# Altium footprint library SPEC_A7_Management.PcbLib: 13 footprints
Each footprint in its own frame and in the unit in brackets; x right, y up, seen from the top. Pads: shape width x height; smd on the part's side, far side on the other; paste and mask are expansions set on the pad; w line width, h text height; cw(c..) or ccw(c..) is an arc to the next point about the centre after c.
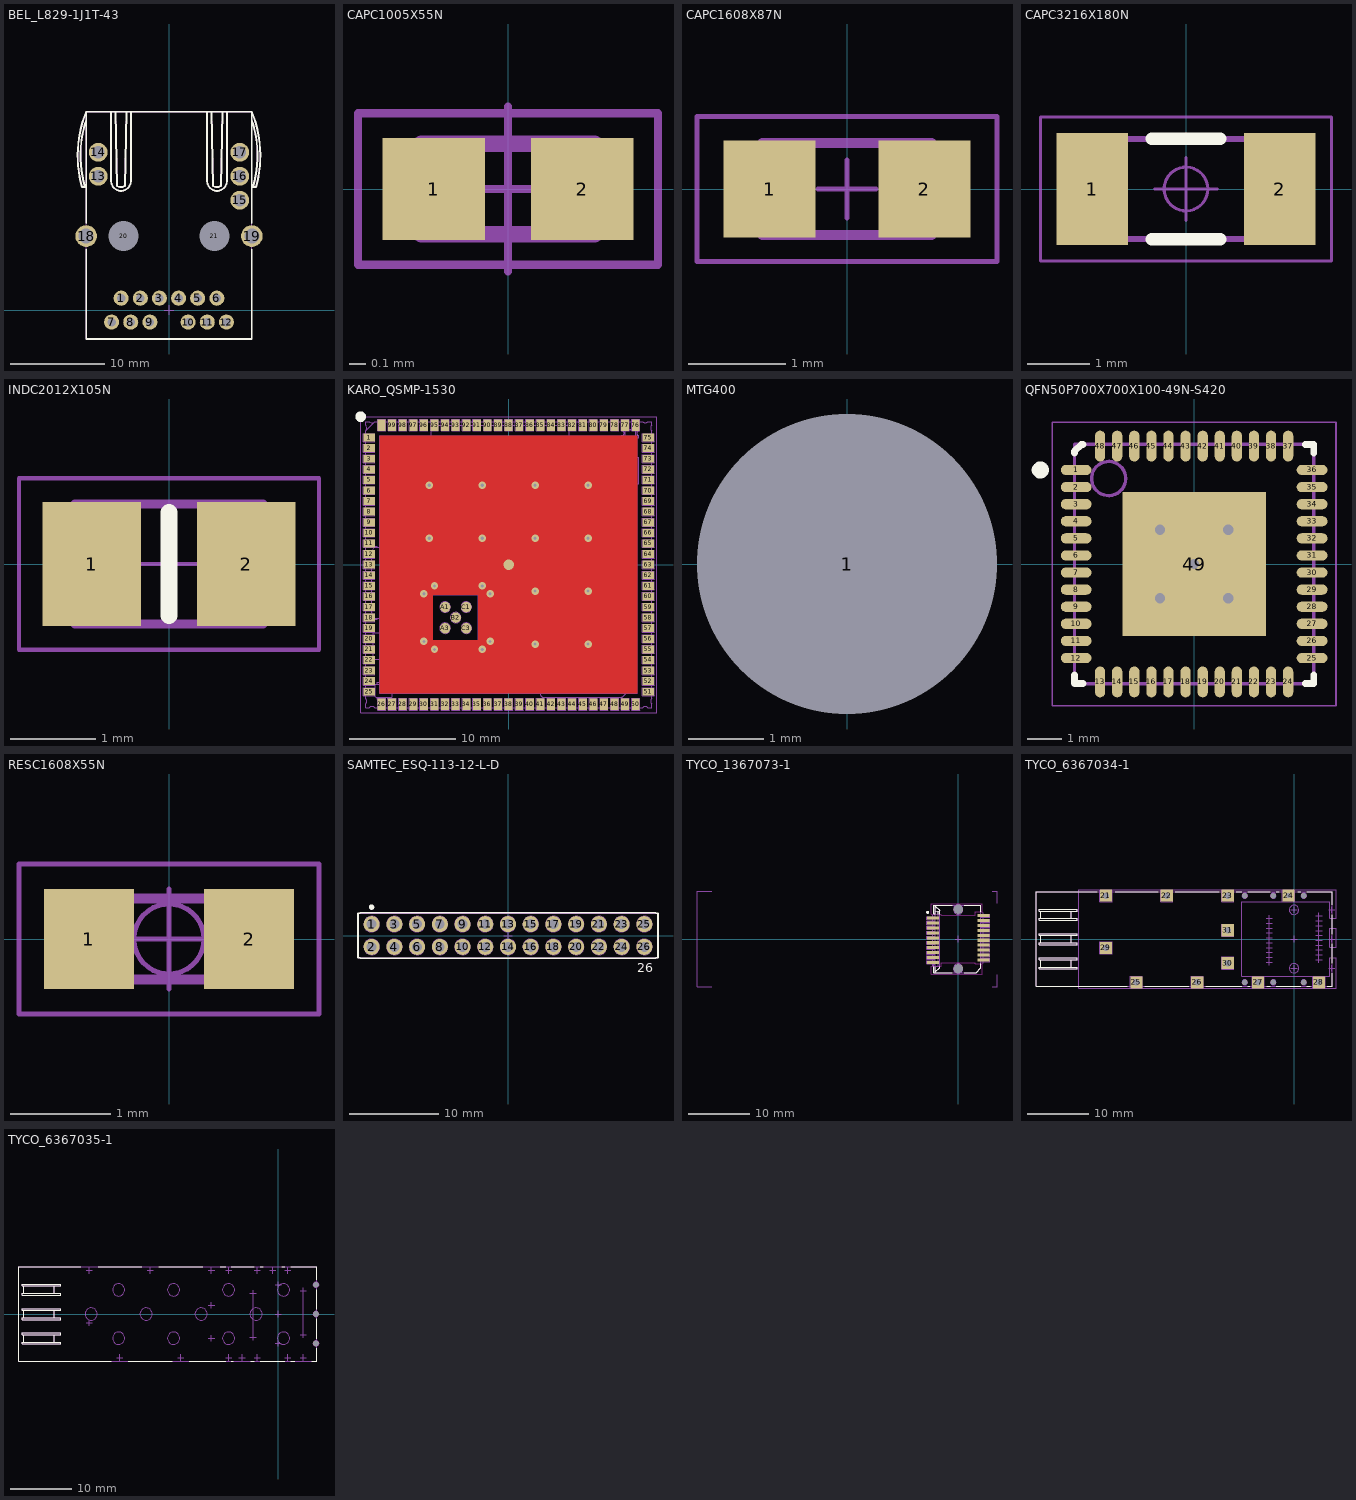
[diagram p0: the footprints below, top view; thin cyan lines are the x and y axes]

## BEL_L829-1J1T-43 [mm] "1 Port, Yellow/Green-Orange LEDs, Gigabit Ethernet, MagJack Connector Module"
height 11.3
pads (21):
  round 1.6 hole 0.9: 1(-5.08,1.27) 2(-3.048,1.27) 3(-1.016,1.27) 4(1.016,1.27) 5(3.048,1.27) 6(5.08,1.27) 7(-6.096,-1.27) 8(-4.064,-1.27) 9(-2.032,-1.27) 10(2.032,-1.27) 11(4.064,-1.27) 12(6.096,-1.27)
  round 2 hole 1.3: 13(-7.52,14.22) 14(-7.52,16.76) 15(7.52,11.68) 16(7.52,14.22) 17(7.52,16.76)
  round 2.3 hole 1.6: 18(-8.79,7.87) 19(8.79,7.87)
  round 1 hole 3.2 unplated mask+1.1: 20(-4.825,7.87) 21(4.825,7.87)
Top Overlay:
  lines w0.2: -8.79,6.47 -8.79,-3.06 8.79,-3.06 8.79,6.47 ; -8.79,9.27 -8.79,21.07 ; -8.79,20.2 ccw(c2.676,16.42) -8.923,13.07 -9.235,13.07 cw(c2.676,16.42) -8.79,21.07 ; -6.147,13.72 -6.147,21.07 ; -6.147,13.721 ccw(c-5.097,13.72) -4.047,13.719 -4.047,21.07 ; -5.7,21.07 -5.503,13.177 ; -5.466,13.157 ccw(c-5.097,13.89) -4.692,13.177 -4.494,21.07 ; 4.047,13.72 4.047,21.07 ; 4.047,13.721 ccw(c5.097,13.72) 6.147,13.719 6.147,21.07 ; 4.494,21.07 4.692,13.177 ; 4.728,13.157 ccw(c5.097,13.89) 5.503,13.177 5.7,21.07 ; 8.79,9.27 8.79,21.07 ; 8.79,20.2 cw(c-2.676,16.42) 8.923,13.07 9.235,13.07 ccw(c-2.676,16.42) 8.79,21.07 ; -8.79,21.07 8.79,21.07
Mechanical 8:
  lines w0.1: -9.29,7.87 -8.79,7.87 ; -8.79,7.37 -8.79,7.87 ; -8.79,8.37 -8.79,7.87 ; -8.29,7.87 -8.79,7.87 ; -8.02,14.22 -7.52,14.22 ; -8.02,16.76 -7.52,16.76 ; -7.52,13.72 -7.52,14.22 ; -7.52,14.72 -7.52,14.22 ; -7.52,16.26 -7.52,16.76 ; -7.52,17.26 -7.52,16.76 ; -7.02,14.22 -7.52,14.22 ; -7.02,16.76 -7.52,16.76 ; -6.596,-1.27 -6.096,-1.27 ; -6.096,-1.77 -6.096,-1.27 ; -6.096,-0.77 -6.096,-1.27 ; -5.596,-1.27 -6.096,-1.27 ; -5.58,1.27 -5.08,1.27 ; -5.325,7.87 -4.825,7.87 ; -5.08,0.77 -5.08,1.27 ; -5.08,1.77 -5.08,1.27 ; -4.825,7.37 -4.825,7.87 ; -4.825,8.37 -4.825,7.87 ; -4.58,1.27 -5.08,1.27 ; -4.564,-1.27 -4.064,-1.27 ; -4.325,7.87 -4.825,7.87 ; -4.064,-1.77 -4.064,-1.27 ; -4.064,-0.77 -4.064,-1.27 ; -3.564,-1.27 -4.064,-1.27 ; -3.548,1.27 -3.048,1.27 ; -3.048,0.77 -3.048,1.27 ; -3.048,1.77 -3.048,1.27 ; -2.548,1.27 -3.048,1.27 ; -2.532,-1.27 -2.032,-1.27 ; -2.032,-1.77 -2.032,-1.27 ; -2.032,-0.77 -2.032,-1.27 ; -1.532,-1.27 -2.032,-1.27 ; -1.516,1.27 -1.016,1.27 ; -1.016,0.77 -1.016,1.27 ; -1.016,1.77 -1.016,1.27 ; -0.516,1.27 -1.016,1.27 ; -0.5,0 0,0 ; 0,-0.5 0,0 ; 0,0.5 0,0 ; 0.5,0 0,0 ; 0.516,1.27 1.016,1.27 ; 1.016,0.77 1.016,1.27 ; 1.016,1.77 1.016,1.27 ; 1.516,1.27 1.016,1.27 ; 1.532,-1.27 2.032,-1.27 ; 2.032,-1.77 2.032,-1.27 ; 2.032,-0.77 2.032,-1.27 ; 2.532,-1.27 2.032,-1.27 ; 2.548,1.27 3.048,1.27 ; 3.048,0.77 3.048,1.27 ; 3.048,1.77 3.048,1.27 ; 3.548,1.27 3.048,1.27 ; 3.564,-1.27 4.064,-1.27 ; 4.064,-1.77 4.064,-1.27 ; 4.064,-0.77 4.064,-1.27 ; 4.325,7.87 4.825,7.87 ; 4.564,-1.27 4.064,-1.27 ; 4.58,1.27 5.08,1.27 ; 4.825,7.37 4.825,7.87 ; 4.825,8.37 4.825,7.87 ; 5.08,0.77 5.08,1.27 ; 5.08,1.77 5.08,1.27 ; 5.325,7.87 4.825,7.87 ; 5.58,1.27 5.08,1.27 ; 5.596,-1.27 6.096,-1.27 ; 6.096,-1.77 6.096,-1.27 ; 6.096,-0.77 6.096,-1.27 ; 6.596,-1.27 6.096,-1.27 ; 7.02,11.68 7.52,11.68 ; 7.02,14.22 7.52,14.22 ; 7.02,16.76 7.52,16.76 ; 7.52,11.18 7.52,11.68 ; 7.52,12.18 7.52,11.68 ; 7.52,13.72 7.52,14.22 ; 7.52,14.72 7.52,14.22 ; 7.52,16.26 7.52,16.76 ; 7.52,17.26 7.52,16.76 ; 8.02,11.68 7.52,11.68 ; 8.02,14.22 7.52,14.22 ; 8.02,16.76 7.52,16.76 ; 8.29,7.87 8.79,7.87 ; 8.79,7.37 8.79,7.87 ; 8.79,8.37 8.79,7.87 ; 9.29,7.87 8.79,7.87
Mechanical 14:
  lines w0.1: -8.79,20.2 ccw(c2.676,16.42) -8.923,13.07 -9.235,13.07 cw(c2.676,16.42) -8.79,21.07 ; -6.147,13.72 -6.147,21.07 ; -6.147,13.721 ccw(c-5.097,13.72) -4.047,13.719 -4.047,21.07 ; -5.7,21.07 -5.503,13.177 ; -5.466,13.157 ccw(c-5.097,13.89) -4.692,13.177 -4.494,21.07 ; 4.047,13.72 4.047,21.07 ; 4.047,13.721 ccw(c5.097,13.72) 6.147,13.719 6.147,21.07 ; 4.494,21.07 4.692,13.177 ; 4.728,13.157 ccw(c5.097,13.89) 5.503,13.177 5.7,21.07 ; 8.79,20.2 cw(c-2.676,16.42) 8.923,13.07 9.235,13.07 ccw(c-2.676,16.42) 8.79,21.07 ; -8.79,21.07 8.79,21.07 ; -8.79,21.07 -8.79,-3.06 8.79,-3.06 8.79,21.07
3D body "BEL_L829-1J1T-43.stp": height 12.21, standoff -3.3, extent -9.697,-3.06 9.693,21.07

## CAPC1005X55N [mm] "Capacitor, Non-Polarized, Chip; 1.00mm L X 0.50mm W X 0.70mm H, IPC Medium Density"
height 0.55
pads (2):
  rect 0.62x0.62 smd: 1(-0.45,0) 2(0.45,0)
Mechanical 14:
  lines w0.1: -0.525,-0.275 0.525,-0.275 0.525,0.275 -0.525,0.275 -0.525,-0.275
Mechanical 15:
  lines w0.05: -0.5,0 0.5,0 ; 0,-0.5 0,0.5 ; -0.91,-0.46 0.91,-0.46 0.91,0.46 -0.91,0.46 -0.91,-0.46
3D body "CAPC1005X55N.stp": height 0.55, standoff 0, extent -0.525,-0.275 0.525,0.275

## CAPC1608X87N [mm] "Chip Capacitor, Body 1.6x0.8mm IPC Medium Density"
height 0.87
pads (2):
  rect 0.95x1 smd: 1(-0.8,0) 2(0.8,0)
Mechanical 14:
  lines w0.1: -0.875,-0.475 0.875,-0.475 0.875,0.475 -0.875,0.475 -0.875,-0.475
Mechanical 15:
  lines w0.05: -0.3,0 0.3,0 ; 0,-0.3 0,0.3 ; -1.55,-0.75 -1.55,0.75 1.55,0.75 1.55,-0.75 -1.55,-0.75
3D body "CAPC1608X87N.stp": height 0.87, standoff 0, extent -0.875,-0.475 0.875,0.475

## CAPC3216X180N [mm] "Chip Capacitor, Body 3.2x1.6mm, IPC Medium Density"
height 1.8
pads (2):
  rect 1.15x1.8 smd: 1(-1.5,0) 2(1.5,0)
Top Overlay:
  lines w0.2: -0.55,-0.8 0.55,-0.8 ; -0.55,0.8 0.55,0.8
Mechanical 14:
  lines w0.1: -1.6,-0.8 1.6,-0.8 1.6,0.8 -1.6,0.8 -1.6,-0.8
Mechanical 15:
  circle w0.05: c0,0 r0.35
  lines w0.05: -0.5,0 0.5,0 ; 0,-0.5 0,0.5 ; -2.325,-1.15 2.325,-1.15 2.325,1.15 -2.325,1.15 -2.325,-1.15
3D body "CAPC3216X180N.stp": height 1.8, standoff 0, extent -1.7,-0.9 1.7,0.9

## INDC2012X105N [mm] "Chip Inductor, EIA 0805, Metric 2012, Body 2.0x1.25mm, IPC Medium Density"
height 1.05
pads (2):
  rect 1.15x1.45 smd: 1(-0.9,0) 2(0.9,0)
Top Overlay:
  lines w0.2: 0,-0.6 0,0.6
Mechanical 14:
  lines w0.1: -1.1,-0.7 1.1,-0.7 1.1,0.7 -1.1,0.7 -1.1,-0.7
Mechanical 15:
  lines w0.05: -0.5,0 0.5,0 ; 0,-0.5 0,0.5 ; -1.75,-1 1.75,-1 1.75,1 -1.75,1 -1.75,-1
3D body "INDC2012X110N.stp": height 1.1, standoff 0, extent -1.1,-0.7 1.1,0.7

## KARO_QSMP-1530 [mm] "QFN, 0.65mm Pitch, 100 Pin,27.35mm L X 27.35mm W X 2.3mm H Body (w/Thermal Tab 24.3 X 24.3mm)"
height 1.6
pads (106):
  rect 1.1x0.75 smd: 1(-13.175,12) 2(-13.175,11) 3(-13.175,10) 4(-13.175,9) 5(-13.175,8) 6(-13.175,7) 7(-13.175,6) 8(-13.175,5) 9(-13.175,4) 10(-13.175,3) 11(-13.175,2) 12(-13.175,1) 13(-13.175,0) 14(-13.175,-1) 15(-13.175,-2) 16(-13.175,-3) 17(-13.175,-4) 18(-13.175,-5) 19(-13.175,-6) 20(-13.175,-7) 21(-13.175,-8) 22(-13.175,-9) 23(-13.175,-10) 24(-13.175,-11) 25(-13.175,-12) 51(13.175,-12) 52(13.175,-11) 53(13.175,-10) 54(13.175,-9) 55(13.175,-8) 56(13.175,-7) 57(13.175,-6) 58(13.175,-5) 59(13.175,-4) 60(13.175,-3) 61(13.175,-2) 62(13.175,-1) 63(13.175,0) 64(13.175,1) 65(13.175,2) 66(13.175,3) 67(13.175,4) 68(13.175,5) 69(13.175,6) 70(13.175,7) 71(13.175,8) 72(13.175,9) 73(13.175,10) 74(13.175,11) 75(13.175,12)
  rect 0.75x1.1 smd: 26(-12,-13.175) 27(-11,-13.175) 28(-10,-13.175) 29(-9,-13.175) 30(-8,-13.175) 31(-7,-13.175) 32(-6,-13.175) 33(-5,-13.175) 34(-4,-13.175) 35(-3,-13.175) 36(-2,-13.175) 37(-1,-13.175) 38(0,-13.175) 39(1,-13.175) 40(2,-13.175) 41(3,-13.175) 42(4,-13.175) 43(5,-13.175) 44(6,-13.175) 45(7,-13.175) 46(8,-13.175) 47(9,-13.175) 48(10,-13.175) 49(11,-13.175) 50(12,-13.175) 76(12,13.175) 77(11,13.175) 78(10,13.175) 79(9,13.175) 80(8,13.175) 81(7,13.175) 82(6,13.175) 83(5,13.175) 84(4,13.175) 85(3,13.175) 86(2,13.175) 87(1,13.175) 88(0,13.175) 89(-1,13.175) 90(-2,13.175) 91(-3,13.175) 92(-4,13.175) 93(-5,13.175) 94(-6,13.175) 95(-7,13.175) 96(-8,13.175) 97(-9,13.175) 98(-10,13.175) 99(-11,13.175) 100(-12,13.175)
  round 1 smd paste-1 mask+0.051: 101(0,0)
  round 1 smd: A1(-6,-4) A3(-6,-6) B2(-5,-5) C1(-4,-4) C3(-4,-6)
via -2.5,2.5 diameter 0.7 hole 0.3
via 2.5,-2.5 diameter 0.7 hole 0.3
via 2.5,2.5 diameter 0.7 hole 0.3
via 2.5,7.5 diameter 0.7 hole 0.3
via -2.5,7.5 diameter 0.7 hole 0.3
via -7.5,7.5 diameter 0.7 hole 0.3
via -7.5,2.5 diameter 0.7 hole 0.3
via 7.5,2.5 diameter 0.7 hole 0.3
via 7.5,7.5 diameter 0.7 hole 0.3
via 7.5,-2.5 diameter 0.7 hole 0.3
via 7.5,-7.5 diameter 0.7 hole 0.3
via 2.5,-7.5 diameter 0.7 hole 0.3
via -7,-8 diameter 0.7 hole 0.3
via -2.5,-8 diameter 0.7 hole 0.3
via -8,-2.75 diameter 0.7 hole 0.3
via -1.75,-2.75 diameter 0.7 hole 0.3
via -2.5,-2 diameter 0.7 hole 0.3
via -7,-2 diameter 0.7 hole 0.3
via -8,-7.25 diameter 0.7 hole 0.3
via -1.75,-7.25 diameter 0.7 hole 0.3
Top Layer:
  region: -12.15,12.15 12.15,12.15 12.15,-12.15 -12.15,-12.15 -12.15,-7.15 -2.85,-7.15 -2.85,-2.85 -7.15,-2.85 -7.15,-7.15 -12.15,-7.15
Top Overlay:
  circle w0.5: c-13.975,13.975 r0.25
Top Paste:
  circle w0.85: c-10.75,-9 r0.425
  circle w0.85: c-8.75,-9 r0.425
  circle w0.85: c-10.75,-11 r0.425
  circle w0.85: c-8.75,-11 r0.425
  circle w0.85: c-10.75,-4 r0.425
  circle w0.85: c-8.75,-4 r0.425
  circle w0.85: c-10.75,-6 r0.425
  circle w0.85: c-8.75,-6 r0.425
  circle w0.85: c-5.75,-9 r0.425
  circle w0.85: c-3.75,-9 r0.425
  circle w0.85: c-5.75,-11 r0.425
  circle w0.85: c-3.75,-11 r0.425
  circle w0.85: c-0.75,-9 r0.425
  circle w0.85: c1.25,-9 r0.425
  circle w0.85: c-0.75,-11 r0.425
  circle w0.85: c1.25,-11 r0.425
  circle w0.85: c4.25,-9 r0.425
  circle w0.85: c6.25,-9 r0.425
  circle w0.85: c4.25,-11 r0.425
  circle w0.85: c6.25,-11 r0.425
  circle w0.85: c4.25,-4 r0.425
  circle w0.85: c6.25,-4 r0.425
  circle w0.85: c4.25,-6 r0.425
  circle w0.85: c6.25,-6 r0.425
  circle w0.85: c-0.75,-4 r0.425
  circle w0.85: c1.25,-4 r0.425
  circle w0.85: c-0.75,-6 r0.425
  circle w0.85: c1.25,-6 r0.425
  circle w0.85: c4.25,1 r0.425
  circle w0.85: c6.25,1 r0.425
  circle w0.85: c4.25,-1 r0.425
  circle w0.85: c6.25,-1 r0.425
  circle w0.85: c-0.75,1 r0.425
  circle w0.85: c1.25,1 r0.425
  circle w0.85: c-0.75,-1 r0.425
  circle w0.85: c1.25,-1 r0.425
  circle w0.85: c-5.75,1 r0.425
  circle w0.85: c-3.75,1 r0.425
  circle w0.85: c-5.75,-1 r0.425
  circle w0.85: c-3.75,-1 r0.425
  circle w0.85: c-10.75,1 r0.425
  circle w0.85: c-8.75,1 r0.425
  circle w0.85: c-10.75,-1 r0.425
  circle w0.85: c-8.75,-1 r0.425
  circle w0.85: c-10.75,6 r0.425
  circle w0.85: c-8.75,6 r0.425
  circle w0.85: c-10.75,4 r0.425
  circle w0.85: c-8.75,4 r0.425
  circle w0.85: c-5.75,6 r0.425
  circle w0.85: c-3.75,6 r0.425
  circle w0.85: c-5.75,4 r0.425
  circle w0.85: c-3.75,4 r0.425
  circle w0.85: c-0.75,6 r0.425
  circle w0.85: c1.25,6 r0.425
  circle w0.85: c-0.75,4 r0.425
  circle w0.85: c1.25,4 r0.425
  circle w0.85: c4.25,6 r0.425
  circle w0.85: c6.25,6 r0.425
  circle w0.85: c4.25,4 r0.425
  circle w0.85: c6.25,4 r0.425
  circle w0.85: c10.75,6 r0.425
  circle w0.85: c8.75,6 r0.425
  circle w0.85: c10.75,4 r0.425
  circle w0.85: c8.75,4 r0.425
  circle w0.85: c10.75,1 r0.425
  circle w0.85: c8.75,1 r0.425
  circle w0.85: c10.75,-1 r0.425
  circle w0.85: c8.75,-1 r0.425
  circle w0.85: c10.75,-4 r0.425
  circle w0.85: c8.75,-4 r0.425
  circle w0.85: c10.75,-6 r0.425
  circle w0.85: c8.75,-6 r0.425
  circle w0.85: c10.75,-9 r0.425
  circle w0.85: c8.75,-9 r0.425
  circle w0.85: c10.75,-11 r0.425
  circle w0.85: c8.75,-11 r0.425
  circle w0.85: c10.75,9 r0.425
  circle w0.85: c8.75,9 r0.425
  circle w0.85: c10.75,11 r0.425
  circle w0.85: c8.75,11 r0.425
  circle w0.85: c5.75,9 r0.425
  circle w0.85: c3.75,9 r0.425
  circle w0.85: c5.75,11 r0.425
  circle w0.85: c3.75,11 r0.425
  circle w0.85: c0.75,9 r0.425
  circle w0.85: c-1.25,9 r0.425
  circle w0.85: c0.75,11 r0.425
  circle w0.85: c-1.25,11 r0.425
  circle w0.85: c-4.25,9 r0.425
  circle w0.85: c-6.25,9 r0.425
  circle w0.85: c-4.25,11 r0.425
  circle w0.85: c-6.25,11 r0.425
  circle w0.85: c-10.75,9 r0.425
  circle w0.85: c-8.75,9 r0.425
  circle w0.85: c-10.75,11 r0.425
  circle w0.85: c-8.75,11 r0.425
Top Solder:
  region: -12.15,12.15 12.15,12.15 12.15,-12.15 -12.15,-12.15 -12.15,-7.15 -2.85,-7.15 -2.85,-2.85 -7.15,-2.85 -7.15,-7.15 -12.15,-7.15
Mechanical 8:
  drawing of 733 lines, arcs and shapes, not listed
Mechanical 14:
  circle w0.1: c8.7,7 r0.15
  circle w0.1: c8.7,7 r0.2
  lines w0.1: -12.725,-4.999 -12.725,-5.15 -12.425,-5.15 -12.425,-5.05 ; -12.725,1.599 -12.725,1.75 -12.425,1.75 -12.425,1.65 ; -12.578,-12.497 cw(c-12.537,-12.433) -12.6,-12.475 -12.6,-11.325 cw(c-12.537,-11.367) -12.578,-11.303 ; -12.524,-12.497 -11.076,-12.497 ; -12.524,-11.303 -11.076,-11.303 ; -12.422,-12.497 -12.422,-12.713 -12.194,-12.713 -12.194,-12.497 ; -12.422,-11.303 -12.422,-11.087 -12.194,-11.087 -12.194,-11.303 ; -11.975,-5.05 -11.975,-5.15 -11.675,-5.15 -11.675,-5 ; -11.975,1.65 -11.975,1.75 -11.675,1.75 -11.675,1.6 ; -11.914,-12.497 -11.914,-12.713 -11.686,-12.713 -11.686,-12.497 ; -11.914,-11.303 -11.914,-11.087 -11.686,-11.087 -11.686,-11.303 ; -11.406,-12.497 -11.406,-12.713 -11.178,-12.713 -11.178,-12.497 ; -11.406,-11.303 -11.406,-11.087 -11.178,-11.087 -11.178,-11.303 ; -11.022,-12.497 ccw(c-11.063,-12.433) -11,-12.475 -11,-11.325 ccw(c-11.063,-11.367) -11.022,-11.303 ; 8.199,4.76 8.199,4.99 ; 8.199,5.21 8.199,5.44 ; 8.199,5.66 8.199,5.89 ; 8.199,6.11 8.199,6.34 ; 8.199,6.56 8.199,6.79 ; 8.199,7.01 8.199,7.24 ; 11.201,4.76 11.201,4.99 ; 11.201,5.21 11.201,5.44 ; 11.201,5.66 11.201,5.89 ; 11.201,6.11 11.201,6.34 ; 11.201,6.56 11.201,6.79 ; 11.201,7.01 11.201,7.24 ; -13.5,12.655 ccw(c-13.75,12.9) -13.5,13.145 -13.5,13.5 -13.145,13.5 ccw(c-12.9,13.75) -12.655,13.5 ; -13.5,12.655 -12.655,13.5 ; -13.5,12.655 -13.5,-12.655 cw(c-13.75,-12.9) -13.5,-13.145 -13.5,-13.5 -13.145,-13.5 cw(c-12.9,-13.75) -12.655,-13.5 12.655,-13.5 cw(c12.9,-13.75) 13.145,-13.5 13.5,-13.5 13.5,-13.145 cw(c13.75,-12.9) 13.5,-12.655 13.5,12.655 cw(c13.75,12.9) 13.5,13.145 13.5,13.5 13.145,13.5 cw(c12.9,13.75) 12.655,13.5 -12.655,13.5 ; -12.95,-4.55 -12.95,1.15 -12.7,1.65 -11.7,1.65 -11.45,1.15 -11.45,-4.55 -11.7,-5.05 -12.7,-5.05 -12.95,-4.55 ; -12.8,-8.95 -12.8,-6.45 -10.8,-6.45 -10.8,-8.95 -12.8,-8.95 ; -10.394,-11.794 -10.394,0.194 1.594,0.194 1.594,-11.794 -10.394,-11.794 ; -7.3,1.8 ccw(c-7.15,1.8) -7.15,1.65 5.55,1.65 ccw(c5.55,1.8) 5.7,1.8 5.7,13 ccw(c5.55,13) 5.55,13.15 -7.15,13.15 ccw(c-7.15,13) -7.3,13 -7.3,1.8 ; 3.05,-12.35 ccw(c3.2,-12.35) 3.2,-12.5 10.688,-12.5 ccw(c10.688,-12.35) 10.794,-12.456 11.906,-11.344 ccw(c11.8,-11.238) 11.95,-11.238 11.95,0.85 ccw(c11.8,0.85) 11.8,1 3.2,1 ccw(c3.2,0.85) 3.05,0.85 3.05,-12.35 ; 7.1,1.85 9.1,1.85 9.1,4.35 7.1,4.35 7.1,1.85 ; 8.2,4.5 8.2,7.5 11.2,7.5 11.2,4.5 8.2,4.5 ; 10.3,7.65 12.3,7.65 12.3,10.15 10.3,10.15 10.3,7.65 ; 10.7,12 10.7,12.2 ccw(c10.7,12.4) 10.7,12.6 10.7,12.8 12.3,12.8 12.3,12.6 ccw(c12.3,12.4) 12.3,12.2 12.3,12 10.7,12 ; 11,12.05 12,12.05 12,12.75 11,12.75 11,12.05
Mechanical 15:
  lines w0.05: -13.975,-13.975 -13.975,13.975 13.975,13.975 13.975,-13.975 -13.975,-13.975
Drill Drawing:
  lines w0.1: -12.35,-12.35 12.35,-12.35 12.35,12.35 -12.35,12.35 -12.35,-12.35
  text "This part footprint uses \"soldermask defined\" pads, do not increase/decrease soldermask aperture in this area" at -11.95,-8.127 h1.52
3D body "KARO_QSMP-1530.stp": height 2.4, standoff 0, extent -13.5,-13.5 13.5,13.5

## MTG400 [mm] "Non Plated Through Hole: Hole Dia.=4mm"
height 15
pads (1):
  round 1 hole 4 unplated mask+1.5: 1(0,0)

## QFN50P700X700X100-49N-S420 [mm] "QFN, 0.50mm Pitch, Square; 48 Pin, 7.00mm L X 7.00mm W X 1mm H body (W/Thermal Tab 4.2mm X 4.2mm), IPC Medium Density"
height 1
pads (49):
  oval 0.9x0.3 smd: 1(-3.45,2.75) 2(-3.45,2.25) 3(-3.45,1.75) 4(-3.45,1.25) 5(-3.45,0.75) 6(-3.45,0.25) 7(-3.45,-0.25) 8(-3.45,-0.75) 9(-3.45,-1.25) 10(-3.45,-1.75) 11(-3.45,-2.25) 12(-3.45,-2.75) 25(3.45,-2.75) 26(3.45,-2.25) 27(3.45,-1.75) 28(3.45,-1.25) 29(3.45,-0.75) 30(3.45,-0.25) 31(3.45,0.25) 32(3.45,0.75) 33(3.45,1.25) 34(3.45,1.75) 35(3.45,2.25) 36(3.45,2.75)
  oval 0.3x0.9 smd: 13(-2.75,-3.45) 14(-2.25,-3.45) 15(-1.75,-3.45) 16(-1.25,-3.45) 17(-0.75,-3.45) 18(-0.25,-3.45) 19(0.25,-3.45) 20(0.75,-3.45) 21(1.25,-3.45) 22(1.75,-3.45) 23(2.25,-3.45) 24(2.75,-3.45) 37(2.75,3.45) 38(2.25,3.45) 39(1.75,3.45) 40(1.25,3.45) 41(0.75,3.45) 42(0.25,3.45) 43(-0.25,3.45) 44(-0.75,3.45) 45(-1.25,3.45) 46(-1.75,3.45) 47(-2.25,3.45) 48(-2.75,3.45)
  rect 4.2x4.2 smd paste-4: 49(0,0)
via -1,1 diameter 0.7 hole 0.3
via 0,0 diameter 0.7 hole 0.3
via -1,-1 diameter 0.7 hole 0.3
via 1,-1 diameter 0.7 hole 0.3
via 1,1 diameter 0.7 hole 0.3
Top Overlay:
  circle w0.25: c-4.5,2.75 r0.125
  lines w0.2: -3.5,-3.25 -3.5,-3.5 -3.25,-3.5 ; -3.5,3.25 -3.5,3.3 -3.3,3.5 -3.25,3.5 ; 3.25,-3.5 3.5,-3.5 3.5,-3.25 ; 3.25,3.5 3.5,3.5 3.5,3.25
Top Paste:
  region: 0.9,2 0.9,1.3 2,1.3 2,2
  region: -2,2 -2,1.3 -0.9,1.3 -0.9,2
  region: -0.9,-2 -0.9,-1.3 -2,-1.3 -2,-2
  region: 2,-2 2,-1.3 0.9,-1.3 0.9,-2
  region: -0.9,-0.7 -0.9,0.7 -2,0.7 -2,-0.7
  region: 0.9,0.7 0.9,-0.7 2,-0.7 2,0.7
  region: 0.7,-0.3 -0.7,-0.3 -0.7,-2 0.7,-2
  rectangle: -0.7,0.3 0.7,2
Mechanical 14:
  circle w0.1: c-2.5,2.5 r0.5
  lines w0.1: -3.5,-3.5 -3.5,3.5 3.5,3.5 3.5,-3.5 -3.5,-3.5
Mechanical 15:
  circle w0.05: c0,0 r0.35
  lines w0.05: -0.5,0 0.5,0 ; 0,-0.5 0,0.5 ; -4.15,-4.15 -4.15,4.15 4.15,4.15 4.15,-4.15 -4.15,-4.15
3D body "QFN50P700X700X100-49N-S420.stp": height 1, standoff 0, extent -3.5,-3.5 3.5,3.5

## RESC1608X55N [mm] "Chip Resistor, EIA 0603, Metric 1608, Body 1.6x0.8mm, IPC Medium Density"
height 0.55
pads (2):
  rect 0.9x1 smd: 1(-0.8,0) 2(0.8,0)
Mechanical 14:
  lines w0.1: -0.8,-0.405 0.8,-0.405 0.8,0.405 -0.8,0.405 -0.8,-0.405
Mechanical 15:
  circle w0.05: c0,0 r0.35
  lines w0.05: -0.5,0 0.5,0 ; 0,-0.5 0,0.5 ; -1.5,-0.75 -1.5,0.75 1.5,0.75 1.5,-0.75 -1.5,-0.75
3D body "RESC1608X55N.stp": height 0.55, standoff 0, extent -0.875,-0.475 0.875,0.475

## SAMTEC_ESQ-113-12-L-D [mm] "26 Contacts, Pitch 2.54mm, PC/104 Elevated Socket Strip, Dual Row, Lead Length 2.29mm"
height 11.05
pads (26):
  round 1.8 hole 1.1: 1(-15.24,1.27) 2(-15.24,-1.27) 3(-12.7,1.27) 4(-12.7,-1.27) 5(-10.16,1.27) 6(-10.16,-1.27) 7(-7.62,1.27) 8(-7.62,-1.27) 9(-5.08,1.27) 10(-5.08,-1.27) 11(-2.54,1.27) 12(-2.54,-1.27) 13(0,1.27) 14(0,-1.27) 15(2.54,1.27) 16(2.54,-1.27) 17(5.08,1.27) 18(5.08,-1.27) 19(7.62,1.27) 20(7.62,-1.27) 21(10.16,1.27) 22(10.16,-1.27) 23(12.7,1.27) 24(12.7,-1.27) 25(15.24,1.27) 26(15.24,-1.27)
Top Overlay:
  circle w0.3: c-15.24,3.17 r0.15
  lines w0.2: -16.764,-2.476 -16.764,2.476 -16.51,2.476 -16.51,2.54 16.51,2.54 16.51,2.476 16.764,2.476 16.764,-2.476 16.51,-2.476 16.51,-2.54 -16.51,-2.54 -16.51,-2.476 -16.764,-2.476
  text "26" at 14.472,-4.1 h1
Mechanical 8:
  drawing of 160 lines, arcs and shapes, not listed
Mechanical 14:
  lines w0.1: -16.51,-2.476 -16.51,-2.54 16.51,-2.54 16.51,-2.476 ; -16.51,2.476 -16.51,2.54 16.51,2.54 16.51,2.476 ; -16.764,-2.476 -16.764,2.476 16.764,2.476 16.764,-2.476 -16.764,-2.476 ; -15.621,-1.651 -14.859,-1.651 -14.859,-0.889 -15.621,-0.889 -15.621,-1.651 ; -15.621,0.889 -14.859,0.889 -14.859,1.651 -15.621,1.651 -15.621,0.889 ; -13.081,-1.651 -12.319,-1.651 -12.319,-0.889 -13.081,-0.889 -13.081,-1.651 ; -13.081,0.889 -12.319,0.889 -12.319,1.651 -13.081,1.651 -13.081,0.889 ; -10.541,-1.651 -9.779,-1.651 -9.779,-0.889 -10.541,-0.889 -10.541,-1.651 ; -10.541,0.889 -9.779,0.889 -9.779,1.651 -10.541,1.651 -10.541,0.889 ; -8.001,-1.651 -7.239,-1.651 -7.239,-0.889 -8.001,-0.889 -8.001,-1.651 ; -8.001,0.889 -7.239,0.889 -7.239,1.651 -8.001,1.651 -8.001,0.889 ; -5.461,-1.651 -4.699,-1.651 -4.699,-0.889 -5.461,-0.889 -5.461,-1.651 ; -5.461,0.889 -4.699,0.889 -4.699,1.651 -5.461,1.651 -5.461,0.889 ; -2.921,-1.651 -2.159,-1.651 -2.159,-0.889 -2.921,-0.889 -2.921,-1.651 ; -2.921,0.889 -2.159,0.889 -2.159,1.651 -2.921,1.651 -2.921,0.889 ; -0.381,-1.651 0.381,-1.651 0.381,-0.889 -0.381,-0.889 -0.381,-1.651 ; -0.381,0.889 0.381,0.889 0.381,1.651 -0.381,1.651 -0.381,0.889 ; 2.159,-1.651 2.921,-1.651 2.921,-0.889 2.159,-0.889 2.159,-1.651 ; 2.159,0.889 2.921,0.889 2.921,1.651 2.159,1.651 2.159,0.889 ; 4.699,-1.651 5.461,-1.651 5.461,-0.889 4.699,-0.889 4.699,-1.651 ; 4.699,0.889 5.461,0.889 5.461,1.651 4.699,1.651 4.699,0.889 ; 7.239,-1.651 8.001,-1.651 8.001,-0.889 7.239,-0.889 7.239,-1.651 ; 7.239,0.889 8.001,0.889 8.001,1.651 7.239,1.651 7.239,0.889 ; 9.779,-1.651 10.541,-1.651 10.541,-0.889 9.779,-0.889 9.779,-1.651 ; 9.779,0.889 10.541,0.889 10.541,1.651 9.779,1.651 9.779,0.889 ; 12.319,-1.651 13.081,-1.651 13.081,-0.889 12.319,-0.889 12.319,-1.651 ; 12.319,0.889 13.081,0.889 13.081,1.651 12.319,1.651 12.319,0.889 ; 14.859,-1.651 15.621,-1.651 15.621,-0.889 14.859,-0.889 14.859,-1.651 ; 14.859,0.889 15.621,0.889 15.621,1.651 14.859,1.651 14.859,0.889
3D body "SAMTEC ESQ-113-12-L-D.stp": height 11.05, standoff -2.29, extent -16.764,-2.54 16.764,2.54

## TYCO_1367073-1 [mm] "20 Position, Pitch 0.8mm SFP Receptacle (Small Form-factor Pluggable)"
height 5.4
pads (22):
  rect 2x0.5 smd: 1(-4.1,3.395) 2(-4.1,2.595) 3(-4.1,1.795) 4(-4.1,0.995) 5(-4.1,0.195) 6(-4.1,-0.605) 7(-4.1,-1.405) 8(-4.1,-2.205) 9(-4.1,-3.005) 10(-4.1,-3.805) 11(4.1,-3.405) 12(4.1,-2.605) 13(4.1,-1.805) 14(4.1,-1.005) 15(4.1,-0.205) 16(4.1,0.595) 17(4.1,1.395) 18(4.1,2.195) 19(4.1,2.995) 20(4.1,3.795)
  round 0.5 hole 1.55 unplated mask+0.525: MTG1(0,4.795) MTG2(0,-4.805)
Top Layer keep-out:
  lines w0.1: -4.34,-5.755 3.94,-5.755 3.94,-4.805 3.94,-3.995 2.78,-3.995 2.78,-3.855 -2.78,-3.855 -2.78,-4.395 -4.34,-4.395 -4.34,-5.755 ; -4.34,3.985 -2.78,3.985 -2.78,3.845 2.78,3.845 2.78,4.385 3.94,4.385 3.94,5.745 -4.34,5.745 -4.34,3.985
Top Overlay:
  circle w0.25: c-4.955,4.318 r0.125
  lines w0.2: -4,-4.505 -4,-5.505 -0.944,-5.505 ; -3.7,-5.505 -3.7,-4.505 ; -3.7,-5.305 -2.98,-4.705 -2.98,-4.505 ; -3.7,4.045 -3.7,5.495 ; -3.7,4.095 -4,4.095 -4,5.495 -0.944,5.495 ; -3.7,4.432 -2.98,4.495 ; -3.7,5.295 -2.98,4.695 -2.98,4.045 ; -3.223,4.045 -3.223,4.474 ; 0.944,-5.505 2.9,-5.505 3.7,-4.705 3.7,-4.055 ; 0.944,5.495 3.7,5.495 3.7,4.445
Mechanical 8:
  circle w0.1: c0,4.795 r0.775
  circle w0.1: c0,-4.805 r0.775
  lines w0.1: -40,-7.774 -42.4,-7.774 -42.4,7.774 -40,7.774 ; -4.6,-3.805 -4.1,-3.805 -3.6,-3.805 ; -4.6,-3.005 -4.1,-3.005 -3.6,-3.005 ; -4.6,-2.205 -4.1,-2.205 -3.6,-2.205 ; -4.6,-1.405 -4.1,-1.405 -3.6,-1.405 ; -4.6,-0.605 -4.1,-0.605 -3.6,-0.605 ; -4.6,0.195 -4.1,0.195 -3.6,0.195 ; -4.6,0.995 -4.1,0.995 -3.6,0.995 ; -4.6,1.795 -4.1,1.795 -3.6,1.795 ; -4.6,2.595 -4.1,2.595 -3.6,2.595 ; -4.6,3.395 -4.1,3.395 -3.6,3.395 ; -4.1,-4.305 -4.1,3.895 ; -0.5,-4.805 0,-4.805 ; -0.5,0 0,0 ; -0.5,4.795 0,4.795 ; 0,-5.305 0,-4.805 ; 0,-4.305 0,-4.805 ; 0,-0.5 0,0 ; 0,0.5 0,0 ; 0,4.295 0,4.795 ; 0,5.295 0,4.795 ; 0.5,-4.805 0,-4.805 ; 0.5,0 0,0 ; 0.5,4.795 0,4.795 ; 3.6,-3.405 4.1,-3.405 4.6,-3.405 ; 3.6,-2.605 4.1,-2.605 4.6,-2.605 ; 3.6,-1.805 4.1,-1.805 4.6,-1.805 ; 3.6,-1.005 4.1,-1.005 4.6,-1.005 ; 3.6,-0.205 4.1,-0.205 4.6,-0.205 ; 3.6,0.595 4.1,0.595 4.6,0.595 ; 3.6,1.395 4.1,1.395 4.6,1.395 ; 3.6,2.195 4.1,2.195 4.6,2.195 ; 3.6,2.995 4.1,2.995 4.6,2.995 ; 3.6,3.795 4.1,3.795 4.6,3.795 ; 4.1,-3.905 4.1,4.295 ; 5.5,-7.774 6.3,-7.774 6.3,-5.777 ; 5.5,7.774 6.3,7.774 6.3,5.777
Mechanical 14:
  circle w0.1: c-4.955,4.318 r0.125
  lines w0.1: -3.7,-5.505 -3.7,-4.105 ; -3.7,-5.305 -2.98,-4.705 -2.98,-4.505 ; -3.7,-4.442 -2.98,-4.505 ; -3.7,-4.055 -5.1,-4.055 -5.1,-3.555 -3.7,-3.555 ; -3.7,-3.255 -5.1,-3.255 -5.1,-2.755 -3.7,-2.755 ; -3.7,-2.455 -5.1,-2.455 -5.1,-1.955 -3.7,-1.955 ; -3.7,-1.655 -5.1,-1.655 -5.1,-1.155 -3.7,-1.155 ; -3.7,-0.855 -5.1,-0.855 -5.1,-0.355 -3.7,-0.355 ; -3.7,-0.055 -5.1,-0.055 -5.1,0.445 -3.7,0.445 ; -3.7,0.745 -5.1,0.745 -5.1,1.245 -3.7,1.245 ; -3.7,1.545 -5.1,1.545 -5.1,2.045 -3.7,2.045 ; -3.7,2.345 -5.1,2.345 -5.1,2.845 -3.7,2.845 ; -3.7,3.145 -5.1,3.145 -5.1,3.645 -3.7,3.645 ; -3.7,4.432 -2.98,4.495 ; -3.7,5.295 -2.985,4.695 -2.98,4.695 -2.98,4.495 ; -3.7,5.495 -3.7,4.095 ; -3.223,-4.484 -3.223,4.474 ; 3.7,-3.655 5.1,-3.655 5.1,-3.155 3.7,-3.155 ; 3.7,-2.855 5.1,-2.855 5.1,-2.355 3.7,-2.355 ; 3.7,-2.055 5.1,-2.055 5.1,-1.555 3.7,-1.555 ; 3.7,-1.255 5.1,-1.255 5.1,-0.755 3.7,-0.755 ; 3.7,-0.455 5.1,-0.455 5.1,0.045 3.7,0.045 ; 3.7,0.345 5.1,0.345 5.1,0.845 3.7,0.845 ; 3.7,1.145 5.1,1.145 5.1,1.645 3.7,1.645 ; 3.7,1.945 5.1,1.945 5.1,2.445 3.7,2.445 ; 3.7,2.745 5.1,2.745 5.1,3.245 3.7,3.245 ; 3.7,3.545 5.1,3.545 5.1,4.045 3.7,4.045 ; -3.7,-4.105 -4,-4.105 -4,-5.505 2.9,-5.505 3.7,-4.705 3.7,5.495 -4,5.495 -4,4.095 -3.7,4.095 ; -3.7,-4.105 -3.7,4.095 ; -2.98,-4.505 -2.98,4.495
3D body "TYCO_1367073-1.stp": height 5.22, standoff -0.81, extent -4.5,-5.505 4.5,5.495

## TYCO_6367034-1 [mm] "Cage bottom For Single Port SFP  (Small Form-factor Pluggable)"
height 8.8
pads (17):
  rect 2x2 hole 1.05: 21(-30.9,7.125) 22(-20.9,7.125) 23(-10.9,7.125) 25(-25.9,-7.125) 26(-15.9,-7.125) 27(-5.9,-7.125) 28(4.1,-7.125) 29(-30.9,-1.455) 30(-10.9,-3.955) 31(-10.9,1.445)
  rect 2x2 hole 0.85: 24(-0.9,7.125)
  round 0.5 hole 0.95 unplated mask+0.225: 32(-8.1,7.125) 33(-3.4,7.125) 34(1.6,7.125) 35(-8.1,-7.125) 36(-3.4,-7.125) 37(1.6,-7.125)
Top Overlay:
  lines w0.2: -41.65,-4.605 -41.65,-3.405 ; -41.65,-0.605 -41.65,0.595 ; -41.65,3.395 -41.65,4.595 ; -36.6,-4.605 -36.6,-3.405 ; -36.6,-0.605 -36.6,0.595 ; -36.6,3.395 -36.6,4.595 ; -32.3,7.774 -42.4,7.774 -42.4,-7.774 -27.4,-7.774 ; -29.4,7.774 -22.3,7.774 ; -24.5,-7.774 -17.3,-7.774 ; -19.5,7.774 -12.3,7.774 ; -14.5,-7.774 -8.568,-7.774 ; -9.5,7.774 -8.568,7.774 ; -7.632,-7.774 -7.3,-7.774 ; -7.632,7.774 -3.868,7.774 ; -4.5,-7.774 -3.868,-7.774 ; -2.932,-7.774 1.132,-7.774 ; -2.932,7.774 -2.4,7.774 ; 0.6,7.774 1.132,7.774 ; 2.068,-7.774 2.7,-7.774 ; 2.068,7.774 6.3,7.774 6.3,5.589 ; 5.5,-7.774 6.3,-7.774 6.3,-5.599 ; 6.3,-4.011 6.3,-0.799 ; 6.3,0.789 6.3,4.001 ; -41.9,-4.905 -35.6,-4.905 -35.6,-4.605 -41.9,-4.605 -41.9,-4.905 ; -41.9,-3.405 -35.6,-3.405 -35.6,-3.105 -41.9,-3.105 -41.9,-3.405 ; -41.9,-0.905 -35.6,-0.905 -35.6,-0.605 -41.9,-0.605 -41.9,-0.905 ; -41.9,0.595 -35.6,0.595 -35.6,0.895 -41.9,0.895 -41.9,0.595 ; -41.9,3.095 -35.6,3.095 -35.6,3.395 -41.9,3.395 -41.9,3.095 ; -41.9,4.595 -35.6,4.595 -35.6,4.895 -41.9,4.895 -41.9,4.595
Mechanical 8:
  drawing of 213 lines, arcs and shapes, not listed
Mechanical 14:
  lines w0.1: -41.65,-4.605 -41.65,-3.405 ; -41.65,-0.605 -41.65,0.595 ; -41.65,3.395 -41.65,4.595 ; -36.6,-4.605 -36.6,-3.405 ; -36.6,-0.605 -36.6,0.595 ; -36.6,3.395 -36.6,4.595 ; -42.4,-7.774 -42.4,7.774 6.3,7.774 6.3,-7.774 -42.4,-7.774 ; -41.9,-4.905 -35.6,-4.905 -35.6,-4.605 -41.9,-4.605 -41.9,-4.905 ; -41.9,-3.405 -35.6,-3.405 -35.6,-3.105 -41.9,-3.105 -41.9,-3.405 ; -41.9,-0.905 -35.6,-0.905 -35.6,-0.605 -41.9,-0.605 -41.9,-0.905 ; -41.9,0.595 -35.6,0.595 -35.6,0.895 -41.9,0.895 -41.9,0.595 ; -41.9,3.095 -35.6,3.095 -35.6,3.395 -41.9,3.395 -41.9,3.095 ; -41.9,4.595 -35.6,4.595 -35.6,4.895 -41.9,4.895 -41.9,4.595
3D body "TYCO_6367034-1_(Cage Bot).stp": height 8.8, standoff -1.1, extent -42.4,-7.774 6.1,7.774

## TYCO_6367035-1 [mm] "Cage Top For Single Port SFP  (Small Form-factor Pluggable)"
height 10
pads (3):
  round 0.5 hole 0.95 unplated mask+0.225: 32(6.2,4.795) 33(6.2,-0.005) 34(6.2,-4.805)
Top Overlay:
  lines w0.2: -41.65,-4.605 -41.65,-3.405 ; -41.65,-0.605 -41.65,0.595 ; -41.65,3.395 -41.65,4.595 ; -36.6,-4.605 -36.6,-3.405 ; -36.6,-0.605 -36.6,0.595 ; -36.6,3.395 -36.6,4.595 ; -32.3,7.774 -42.4,7.774 -42.4,-7.774 -27.3,-7.774 ; -29.4,7.774 -22.3,7.774 ; -24.5,-7.774 -17.3,-7.774 ; -19.5,7.774 -12.3,7.774 ; -14.5,-7.774 -8.568,-7.774 ; -9.5,7.774 -8.568,7.774 ; -7.632,-7.774 -7.3,-7.774 ; -7.632,7.774 -3.868,7.774 ; -4.5,-7.774 -3.868,-7.774 ; -2.932,-7.774 1.132,-7.774 ; -2.932,7.774 -2.4,7.774 ; 0.6,7.774 1.132,7.774 ; 2.068,-7.774 2.7,-7.774 ; 2.068,7.774 6.3,7.774 6.3,5.589 ; 5.5,-7.774 6.3,-7.774 6.3,-5.599 ; 6.3,-4.011 6.3,-0.799 ; 6.3,0.789 6.3,4.001 ; -41.9,-4.905 -41.9,-4.605 -35.6,-4.605 -35.6,-4.905 -41.9,-4.905 ; -41.9,-3.405 -41.9,-3.105 -35.6,-3.105 -35.6,-3.405 -41.9,-3.405 ; -41.9,-0.905 -41.9,-0.605 -35.6,-0.605 -35.6,-0.905 -41.9,-0.905 ; -41.9,0.595 -41.9,0.895 -35.6,0.895 -35.6,0.595 -41.9,0.595 ; -41.9,3.095 -41.9,3.395 -35.6,3.395 -35.6,3.095 -41.9,3.095 ; -41.9,4.595 -41.9,4.895 -35.6,4.895 -35.6,4.595 -41.9,4.595
Mechanical 8:
  circle w0.1: c6.2,4.795 r0.425
  circle w0.1: c6.2,-0.005 r0.425
  circle w0.1: c6.2,-4.805 r0.425
  lines w0.1: -31.4,-1.455 -30.9,-1.455 ; -31.4,7.125 -30.9,7.125 ; -30.9,-1.955 -30.9,-1.455 ; -30.9,-0.955 -30.9,-1.455 ; -30.9,6.625 -30.9,7.125 ; -30.9,7.625 -30.9,7.125 ; -30.4,-1.455 -30.9,-1.455 ; -30.4,7.125 -30.9,7.125 ; -26.4,-7.125 -25.9,-7.125 ; -25.9,-7.625 -25.9,-7.125 ; -25.9,-6.625 -25.9,-7.125 ; -25.4,-7.125 -25.9,-7.125 ; -21.4,7.125 -20.9,7.125 ; -20.9,6.625 -20.9,7.125 ; -20.9,7.625 -20.9,7.125 ; -20.4,7.125 -20.9,7.125 ; -16.4,-7.125 -15.9,-7.125 ; -15.9,-7.625 -15.9,-7.125 ; -15.9,-6.625 -15.9,-7.125 ; -15.4,-7.125 -15.9,-7.125 ; -11.4,-3.955 -10.9,-3.955 ; -11.4,1.445 -10.9,1.445 ; -11.4,7.125 -10.9,7.125 ; -10.9,-4.455 -10.9,-3.955 ; -10.9,-3.455 -10.9,-3.955 ; -10.9,0.945 -10.9,1.445 ; -10.9,1.945 -10.9,1.445 ; -10.9,6.625 -10.9,7.125 ; -10.9,7.625 -10.9,7.125 ; -10.4,-3.955 -10.9,-3.955 ; -10.4,1.445 -10.9,1.445 ; -10.4,7.125 -10.9,7.125 ; -8.6,-7.125 -8.1,-7.125 ; -8.6,7.125 -8.1,7.125 ; -8.1,-7.625 -8.1,-7.125 ; -8.1,-6.625 -8.1,-7.125 ; -8.1,6.625 -8.1,7.125 ; -8.1,7.625 -8.1,7.125 ; -7.6,-7.125 -8.1,-7.125 ; -7.6,7.125 -8.1,7.125 ; -6.4,-7.125 -5.9,-7.125 ; -5.9,-7.625 -5.9,-7.125 ; -5.9,-6.625 -5.9,-7.125 ; -5.4,-7.125 -5.9,-7.125 ; -4.6,-3.805 -4.1,-3.805 -3.6,-3.805 ; -4.6,3.395 -4.1,3.395 -3.6,3.395 ; -4.1,-4.305 -4.1,3.895 ; -3.9,-7.125 -3.4,-7.125 ; -3.9,7.125 -3.4,7.125 ; -3.4,-7.625 -3.4,-7.125 ; -3.4,-6.625 -3.4,-7.125 ; -3.4,6.625 -3.4,7.125 ; -3.4,7.625 -3.4,7.125 ; -2.9,-7.125 -3.4,-7.125 ; -2.9,7.125 -3.4,7.125 ; -1.4,7.125 -0.9,7.125 ; -0.9,6.625 -0.9,7.125 ; -0.9,7.625 -0.9,7.125 ; -0.5,-4.805 0,-4.805 ; -0.5,0 0,0 ; -0.5,4.795 0,4.795 ; -0.4,7.125 -0.9,7.125 ; 0,-5.305 0,-4.805 ; 0,-4.305 0,-4.805 ; 0,-0.5 0,0 ; 0,0.5 0,0 ; 0,4.295 0,4.795 ; 0,5.295 0,4.795 ; 0.5,-4.805 0,-4.805 ; 0.5,0 0,0 ; 0.5,4.795 0,4.795 ; 1.1,-7.125 1.6,-7.125 ; 1.1,7.125 1.6,7.125 ; 1.6,-7.625 1.6,-7.125 ; 1.6,-6.625 1.6,-7.125 ; 1.6,6.625 1.6,7.125 ; 1.6,7.625 1.6,7.125 ; 2.1,-7.125 1.6,-7.125 ; 2.1,7.125 1.6,7.125 ; 3.6,-7.125 4.1,-7.125 ; 3.6,-3.405 4.1,-3.405 4.6,-3.405 ; 3.6,3.795 4.1,3.795 4.6,3.795 ; 4.1,-7.625 4.1,-7.125 ; 4.1,-6.625 4.1,-7.125 ; 4.1,-3.905 4.1,4.295 ; 4.6,-7.125 4.1,-7.125 ; 5.7,-4.805 6.2,-4.805 ; 5.7,-0.005 6.2,-0.005 ; 5.7,4.795 6.2,4.795 ; 6.2,-5.305 6.2,-4.805 ; 6.2,-4.305 6.2,-4.805 ; 6.2,-0.505 6.2,-0.005 ; 6.2,0.495 6.2,-0.005 ; 6.2,4.295 6.2,4.795 ; 6.2,5.295 6.2,4.795 ; 6.7,-4.805 6.2,-4.805 ; 6.7,-0.005 6.2,-0.005 ; 6.7,4.795 6.2,4.795
Mechanical 14:
  circle w0.1: c-26.1,3.945 r1
  circle w0.1: c-30.6,-0.005 r1
  circle w0.1: c-26.1,-3.955 r1
  circle w0.1: c-21.6,-0.005 r1
  circle w0.1: c-17.1,-3.955 r1
  circle w0.1: c-12.6,-0.005 r1
  circle w0.1: c-17.1,3.945 r1
  circle w0.1: c-8.1,3.945 r1
  circle w0.1: c-8.1,-3.955 r1
  circle w0.1: c-3.6,-0.005 r1
  circle w0.1: c0.9,-3.955 r1
  circle w0.1: c0.9,3.945 r1
  lines w0.1: -41.65,-4.605 -41.65,-3.405 ; -41.65,-0.605 -41.65,0.595 ; -41.65,3.395 -41.65,4.595 ; -36.6,-4.605 -36.6,-3.405 ; -36.6,-0.605 -36.6,0.595 ; -36.6,3.395 -36.6,4.595 ; -42.4,-7.774 6.3,-7.774 6.3,7.774 -42.4,7.774 -42.4,-7.774 ; -41.9,-4.905 -41.9,-4.605 -35.6,-4.605 -35.6,-4.905 -41.9,-4.905 ; -41.9,-3.405 -41.9,-3.105 -35.6,-3.105 -35.6,-3.405 -41.9,-3.405 ; -41.9,-0.905 -41.9,-0.605 -35.6,-0.605 -35.6,-0.905 -41.9,-0.905 ; -41.9,0.595 -41.9,0.895 -35.6,0.895 -35.6,0.595 -41.9,0.595 ; -41.9,3.095 -41.9,3.395 -35.6,3.395 -35.6,3.095 -41.9,3.095 ; -41.9,4.595 -41.9,4.895 -35.6,4.895 -35.6,4.595 -41.9,4.595
3D body "TYCO_6367035-1_(Cage Top).stp": height 10.34, standoff -1.19, extent -42.4,-7.774 6.3,7.886